# EAGLE library part HEADER-1X14 (library T2M_4_0)
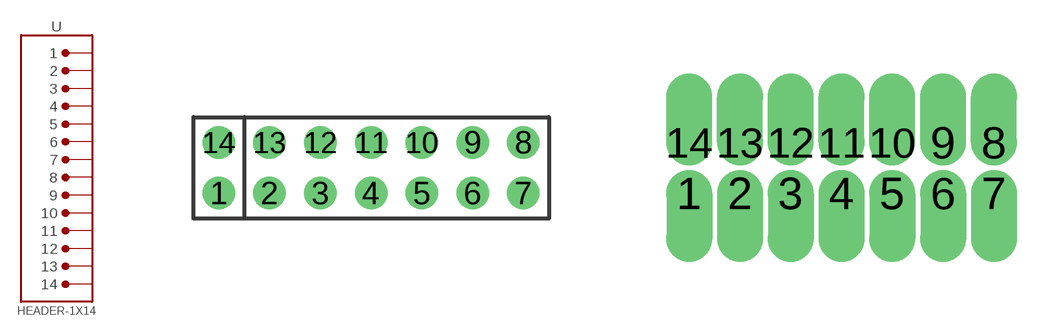
[diagram p4: symbol with the pads of 2X7-1.27MM; footprints 2X7-1.27MM, 2X7-1.27MM-POGO]

Designator prefix -

## HEADER-1X14  [2X7-1.27MM]
1  1
2  2
3  3
4  4
5  5
6  6
7  7
8  8
9  9
10  10
11  11
12  12
13  13
14  14

## HEADER-1X14-POGO  [2X7-1.27MM-POGO]
Pads as for 2X7-1.27MM

## HEADER-1X14-POGO-EDGE  [2X7-1.27MM-POGO-EDGE]
Pads as for 2X7-1.27MM

## Footprint 2X7-1.27MM (pad centres in mm)
drill 0.305 pad 0.787: 1 -3.81,-0.635; 2 -2.54,-0.635; 3 -1.27,-0.635; 4 0,-0.635; 5 1.27,-0.635; 6 2.54,-0.635; 7 3.81,-0.635; 8 3.81,0.635; 9 2.54,0.635; 10 1.27,0.635; 11 0,0.635; 12 -1.27,0.635; 13 -2.54,0.635; 14 -3.81,0.635

## Footprint 2X7-1.27MM-POGO (pad centres in mm)
drill 0.64 pad 1 offset: 1 -3.81,-0.635; 2 -2.54,-0.635; 3 -1.27,-0.635; 4 0,-0.635; 5 1.27,-0.635; 6 2.54,-0.635; 7 3.81,-0.635; 8 3.81,0.635; 9 2.54,0.635; 10 1.27,0.635; 11 0,0.635; 12 -1.27,0.635; 13 -2.54,0.635; 14 -3.81,0.635

## Footprint 2X7-1.27MM-POGO-EDGE (pad centres in mm)
smd 0.635 x 2.54 bottom: 1 -3.81,-1.77; 2 -2.54,-1.77; 3 -1.27,-1.77; 4 0,-1.77; 5 1.27,-1.77; 6 2.54,-1.77; 7 3.81,-1.77
smd 0.635 x 2.54: 8 3.81,-1.77; 9 2.54,-1.77; 10 1.27,-1.77; 11 0,-1.77; 12 -1.27,-1.77; 13 -2.54,-1.77; 14 -3.81,-1.77